# Altium schematic symbol library Schlib2.SchLib: 36 symbols
Pins are listed as number, name and electrical type; pins without a type are passive.

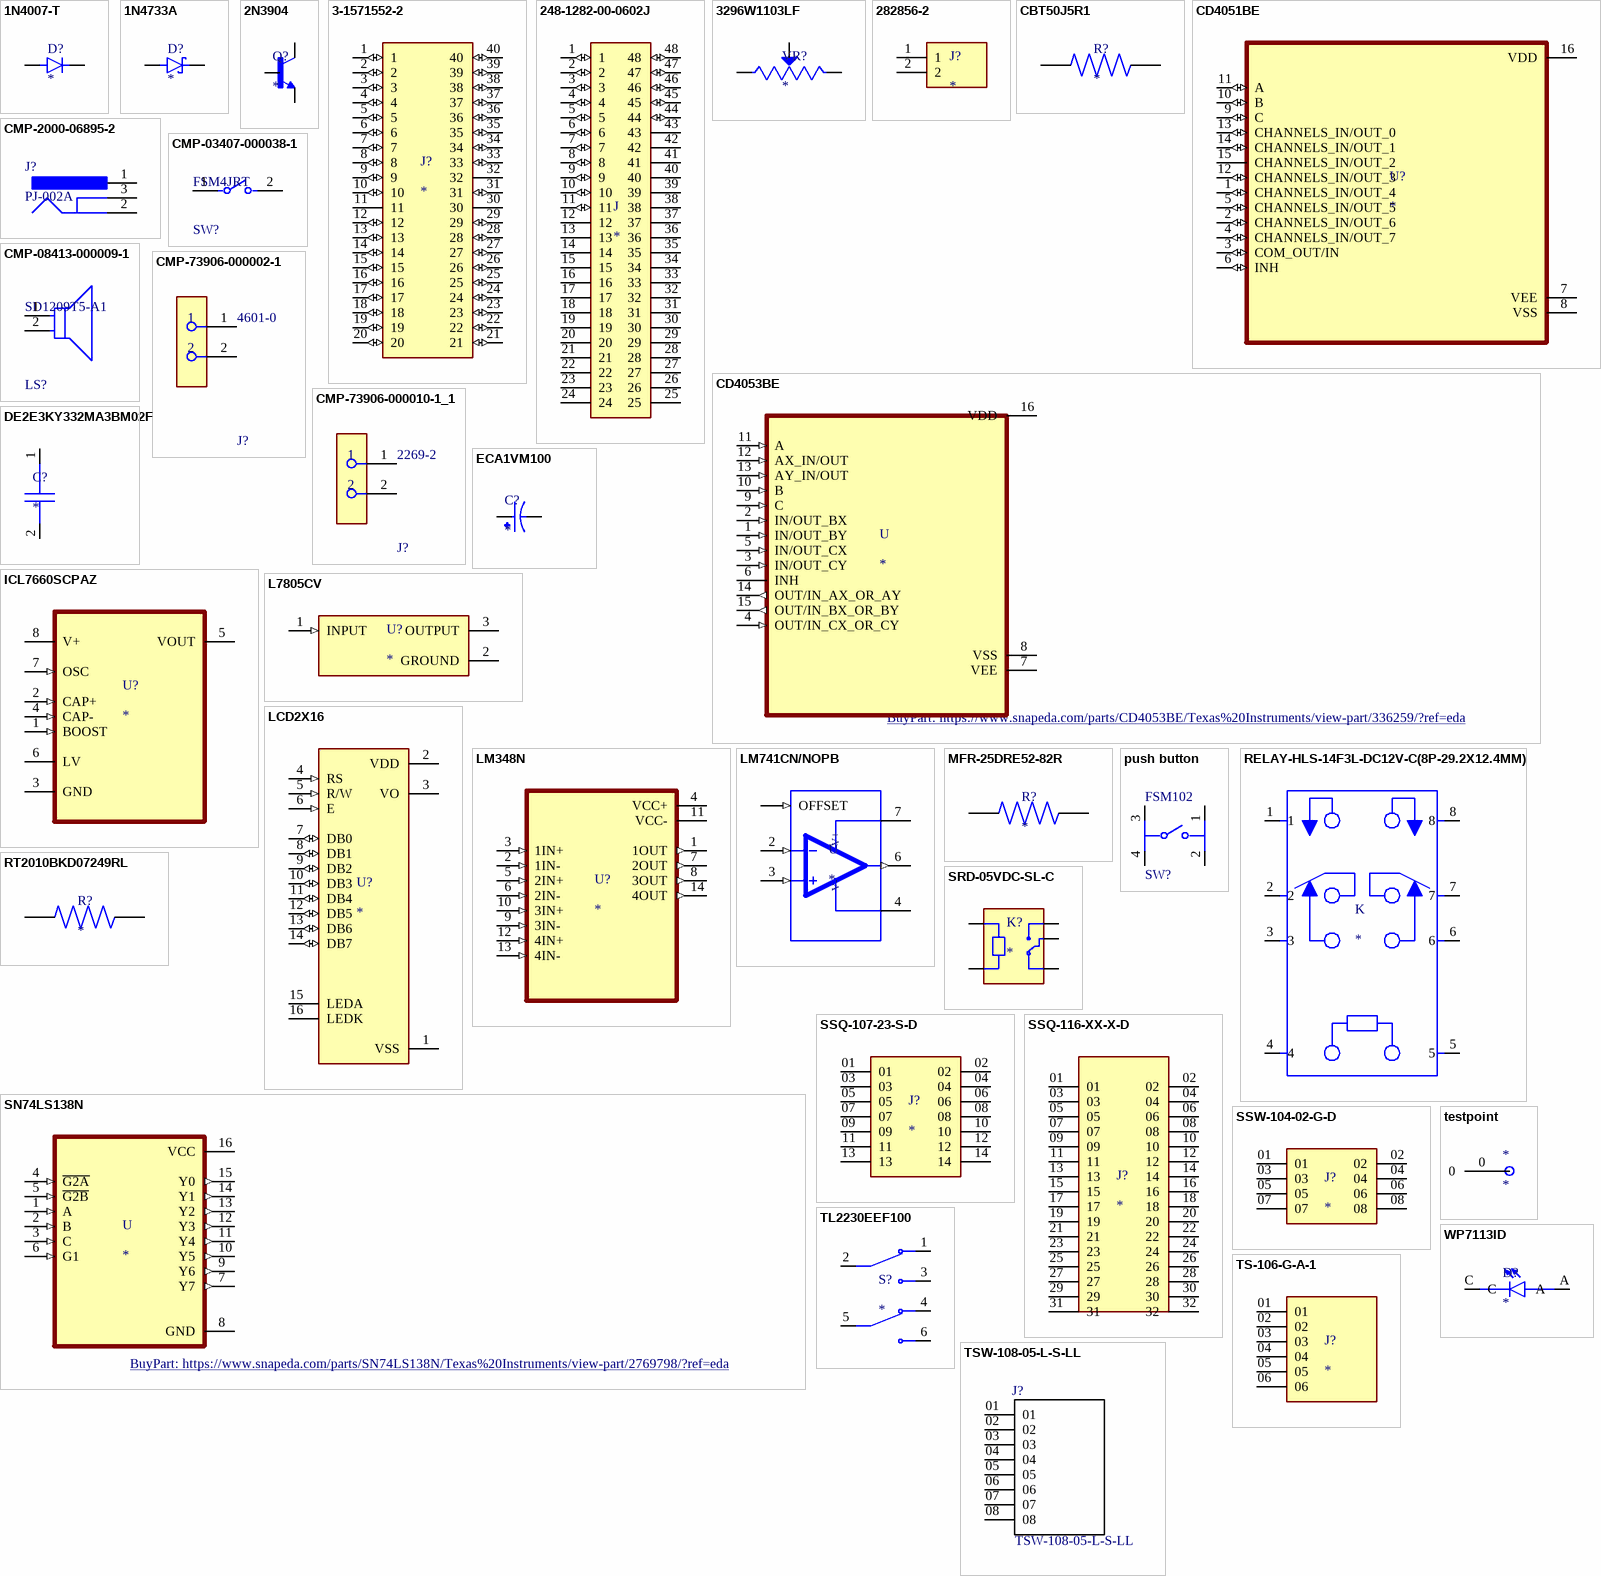
[diagram p0: symbols 1N4007-T to WP7113ID]

## 1N4007-T
designator D?
Diode Standard 1A 1000V 1Vf DO41 | Diodes Inc 1N4007-T; MF: Diodes Incorporated; SnapEDA_Link: https://www.snapeda.com/parts/1N4007-T/Diodes+Inc./view-part/?ref=snap; Package: DO-41 Diodes Inc.; Value: *; MP: 1N4007-T; Check_prices: https://www.snapeda.com/parts/1N4007-T/Diodes+Inc./view-part/?ref=eda
footprint DIOAD780W78L463D236
pins: A, K

## 1N4733A
designator D?
Zener Diode 5.1 V 1 W Â±5% Through Hole DO-41; MF: onsemi; MP: 1N4733A; SnapEDA_Link: https://www.snapeda.com/parts/1N4733A/Onsemi/view-part/?ref=snap; Package: DO-41 ON Semiconductor; Value: *; Check_prices: https://www.snapeda.com/parts/1N4733A/Onsemi/view-part/?ref=eda
footprint DIOAD1036W78L463D272
pins: 1 K, 2 A

## 2N3904
designator Q?
TRANS NPN 40V 200MA TO92-3; MP: 2N3904; MF: Rectron; SnapEDA_Link: https://www.snapeda.com/parts/2N3904/Rectron/view-part/?ref=snap; Package: TO-226-3 Rectron; Check_prices: https://www.snapeda.com/parts/2N3904/Rectron/view-part/?ref=eda; Purchase-URL: https://pricing.snapeda.com/search/part/2N3904/?ref=eda; Price: None; Value: *; Availability: In Stock
footprint TO92127P495H495-3
pins: 1 E, 2 B, 3 C

## 3-1571552-2
designator J?
Row Spacing 2.54 mm Pitch Through Hole Dip Socket; MP: 3-1571552-2; Package: None; Price: None; Value: *; Availability: Unavailable
footprint TE_3-1571552-2
pins: 1 (io), 2 (io), 3 (io), 4 (io), 5 (io), 6 (io), 7 (io), 8 (io), 9 (io), 10 (io), 11 (power), 12 (io), 13 (io), 14 (io), 15 (io), 16 (io), 17 (io), 18 (io), 19 (io), 20 (io), 21 (io), 22 (io), 23 (io), 24 (io), 25 (io), 26 (io), 27 (io), 28 (io), 29 (io), 30 (power), 31 (io), 32 (power), 33 (io), 34 (io), 35 (io), 36 (io), 37 (io), 38 (io), 39 (io), 40 (io)

## 248-1282-00-0602J
designator J
48 (2 x 24) Pos DIP, ZIF (ZIP), 0.6 (15.24mm) Row Spacing Socket Gold Connector; MP: 248-1282-00-0602J; MF: 3M; Package: None; Value: *; SnapEDA_Link: https://www.snapeda.com/parts/248-1282-00-0602J/3M%20(TC)/view-part/323818/?ref=snap; DigiKey-Purchase-URL: https://snapeda.com/shop?store=DigiKey&id=323818; Digi-Key_Part_Number: 3M5004-ND
footprint 3M_248-1282-00-0602J
pins: 1 (io), 2 (io), 3 (io), 4 (io), 5 (io), 6 (io), 7 (io), 8 (io), 9 (io), 10 (io), 11 (io), 12, 13, 14, 15, 16, 17, 18, 19, 20, 21, 22, 23, 24, 25, 26, 27, 28, 29, 30, 31, 32, 33, 34, 35, 36, 37, 38, 39, 40, 41, 42, 43, 44 (io), 45 (io), 46 (io), 47 (io), 48 (io)

## 3296W1103LF
designator VR?
Trimmer, Potentiometer 10kohm 25turn Thd; MP: 3296W1103LF; MF: Bourns; Package: None; Check_prices: https://www.snapeda.com/parts/3296W1103LF/Bourns/view-part/2487625/?ref=eda; Availability: Unavailable; Price: None; Value: *; SnapEDA_Link: https://www.snapeda.com/parts/3296W1103LF/Bourns/view-part/2487625/?ref=snap
footprint TRIM_3296W1103LF
pins: 1 CCW, 2 WIPER, 3 CW

## 282856-2
designator J?
TERMI-BLOK PCB MOUNT 2P; MP: 282856-2; MF: TE Connectivity; Purchase-URL: https://pricing.snapeda.com/search/part/282856-2/?ref=eda; Package: None; EU_RoHS_Compliance: Compliant with Exemptions; Price: None; Availability: In Stock; Value: *; Check_prices: https://www.snapeda.com/parts/282856-2/TE+Connectivity+AMP+Connectors/view-part/?ref=eda; SnapEDA_Link: https://www.snapeda.com/parts/282856-2/TE+Connectivity+AMP+Connectors/view-part/?ref=snap
footprint TE_282856-2
pins: 1 (power), 2 (power)

## CBT50J5R1
designator R?
5.1 Ohms Â±5% 0.5W, 1/2W Through Hole Resistor Axial Pulse Withstanding Carbon Composition; MP: CBT50J5R1; MF: TE Connectivity / AMP; Price: None; Availability: In Stock; Package: Axial TE Connectivity / AMP; Value: *; SnapEDA_Link: https://www.snapeda.com/parts/CBT50J5R1/TE+Connectivity+%252F+AMP/view-part/?ref=snap; Purchase-URL: https://pricing.snapeda.com/search/part/CBT50J5R1/?ref=eda; Check_prices: https://www.snapeda.com/parts/CBT50J5R1/TE+Connectivity+%252F+AMP/view-part/?ref=eda
footprint RESAD1520W70L1030D380
pins: 1, 2

## CD4051BE
designator U?
20-V, 8:1, 1-channel analog multiplexer with logic-level conversion; MP: CD4051BE; MF: Texas Instruments; Price: None; Package: PDIP-16 Texas Instruments; Availability: In Stock; SnapEDA_Link: https://www.snapeda.com/parts/CD4051BE/Texas+Instruments/view-part/?ref=snap; Value: *; Check_prices: https://www.snapeda.com/parts/CD4051BE/Texas+Instruments/view-part/?ref=eda; Purchase-URL: https://pricing.snapeda.com/search/part/CD4051BE/?ref=eda
footprint DIP794W45P254L1969H508Q16
pins: 1 CHANNELS_IN/OUT_4 (io), 2 CHANNELS_IN/OUT_6 (io), 3 COM_OUT/IN (io), 4 CHANNELS_IN/OUT_7 (io), 5 CHANNELS_IN/OUT_5 (io), 6 INH (io), 7 VEE (power), 8 VSS (power), 9 C (io), 10 B (io), 11 A (io), 12 CHANNELS_IN/OUT_3 (io), 13 CHANNELS_IN/OUT_0 (io), 14 CHANNELS_IN/OUT_1 (io), 15 CHANNELS_IN/OUT_2, 16 VDD (power)

## CD4053BE
designator U
20-V, 2:1 (SPDT), 3-channel analog multiplexer with logic-level conversion 16-PDIP -55 to 125; MP: CD4053BE; MF: Texas Instruments; DigiKey-Purchase-URL: https://snapeda.com/shop?store=DigiKey&id=336259; SnapEDA_Link: https://www.snapeda.com/parts/CD4053BE/Texas%20Instruments/view-part/336259/?ref=snap; Availability: Good; Arrow_Electronics-Purchase-URL: https://snapeda.com/shop?store=Arrow+Electronics&id=336259; Mouser-Purchase-URL: https://snapeda.com/shop?store=Mouser&id=336259; Package: PDIP-16 Texas Instruments; Texas_Instruments-Purchase-URL: https://snapeda.com/shop?store=Texas+Instruments&id=336259; Value: *; Price: None; BuyPart: https://www.snapeda.com/parts/CD4053BE/Texas%20Instruments/view-part/336259/?ref=eda
footprint DIP794W45P254L1969H508Q16
pins: 1 IN/OUT_BY (in), 2 IN/OUT_BX (in), 3 IN/OUT_CY (in), 4 OUT/IN_CX_OR_CY (in), 5 IN/OUT_CX (in), 6 INH (power), 7 VEE (power), 8 VSS (power), 9 C (in), 10 B (in), 11 A (in), 12 AX_IN/OUT (in), 13 AY_IN/OUT (in), 14 OUT/IN_AX_OR_AY (out), 15 OUT/IN_BX_OR_BY (out), 16 VDD (power)

## CMP-2000-06895-2
designator J?, comment PJ-002A
Through Hole Right Angle DC Power Jack, 2.5 A, 2 mm Center Pin, 3 Position, -25 to 85 degC, RoHS, Bulk; Manufacturer: CUIInc.; Brand: CUI; Inside Contact Diameter: 2mm; Voltage Rating: 24V; Outside Contact Diameter: 6.5mm; Current Rating: 2.5A; Insulation Resistance: 50MOhms; Contact Gender: Male; Connector Type: DCPowerJack; Datasheet Version: Rev. 1.03, 04/2016; Housing Material: PolybutyleneTerephthalate(PBT); Operating Temperature Range: -25Cto+85C; Termination Style: ThroughHole; Product Category: DCPowerConnectors; Mounting Technology: ThroughHole; Mounting Style: ThroughHole; Factory Pack Quantity: 500; Contact Plating: Nickel; Package Reference: PJ-002A; Mounting Angle: Right; Package Description: 3-Pin Through Hole Device, Body 14.4 x 9 mm, Height 11 mm; Flammability Rating: UL94V-0; Manufacturer URL: http://www.cui.com/; Product: Jacks; Contact Material: Copper; Datasheet URL: http://www.cui.com/product/resource/pj-002a.pdf; RoHS: True
footprint CUI-PJ-002A_V (THD, 3-Leads, Body 14.4x9mm, Height 11mm)
pins: 1, 2, 3

## CMP-03407-000038-1
designator SW?, comment FSM4JRT
SWITCH TACTILE SPST-NO 0.05A 24V; Current Rating: 50mA; Actuator Diameter: 3.5mm; Max Voltage Rating (DC): 12V; Actuator Length: 0.055inch; Switch Travel: 0.25mm; Actuator Type: Standard; Contact Resistance: 100mR; Illumination Type: Non-Illuminated; Electrical Life: 100000Cycles; Throw Configuration: SPST; Switch Function: Off-Mom; Actuator Material: Resin; Operating Force: 1.57N; Series: FSMJRT; Min Operating Temperature: -35°C; Max Current Rating: 50mA; Termination: PC Pins; Type: Switch; Radiation Hardening: No; Max Operating Temperature: 105°C; Voltage Rating (DC): 12V; Contact Material: Copper Alloy; Contact Current Rating: 50mA; RoHS Compliant: Yes; Mechanical Life: 100000Cycles; Mount: Through Hole; Package Quantity: 10000; Case/Package: Radial; Packaging: Tape and Reel; Length: 6.19mm; Contact Plating: Silver; Depth: 6.19mm; Orientation: Straight
footprint FP-FSM4JRT-MFG
pins: 1, 2

## CMP-08413-000009-1
designator LS?, comment SD1209T5-A1
AUDIO MAGNETIC XDCR 3-6V TH; Max Supply Current: 60mA; Number of Terminals/Pins: 2; Frequency: 2.048kHz; Washable: No; Operating Supply Voltage: 5V; Self Resonant Frequency: 2.05kHz; Min Operating Temperature: -40°C; Operating Supply Current: 60mA; Diameter: 12mm; Package Quantity: 100; Max Operating Temperature: 85°C; Sensing Method: Magnetic; Series: SD; Current Rating: 60mA; Lead Free: Lead Free; Height: 9mm; Packaging: Tray; Termination: PC Pins; Number of Pins: 2; Voltage Rating (DC): 5V; Mount: Through Hole
footprint FP-SD1209-MFG
pins: 1 C, 2 A

## CMP-73906-000002-1
designator J?, comment 4601-0
CONN TRPL BANANA JACK TURRET; Manufacturer: Pomona Electronics; Conn Orientation: NA; Voltage Rating: 30V; Number Of Contacts: 3; Pitch: 19.05mm; Is Female: yes; Current Rating: 15A; Temperature: to +115°C; ComponentLink2URL: https://www.pomonaelectronics.com/sites/default/files/d4601_1_01.pdf; Temperature Range High: +115°C; Device Class L1: Connectors; Category: Conn; ComponentLink2Description: Datasheet; Device Class L2: unset; RoHS: TRUE; Lead Free: Yes; Automotive: No; Octopart: https://octopart.com/4601-0-pomona+electronics-39650713; Package: 0; Digikey Description: CONN TRPL BANANA JACK TURRET; Contact Material: Nickel; Mouser Description: Test Plugs & Test Jacks TRIPLE BANANA JAC; Device Class L3: unset; Manufacturer Part Number: 4601-0
footprint FP-2269-2-MFG
pins: 1, 2

## CMP-73906-000010-1_1
designator J?, comment 2269-2
CONN DBL BANANA JACK TURRET; Voltage Rating (DC): 70V; Max Current Rating: 15A; Number of Contacts: 2; Voltage Rating: 2.5kV; Body Material: PC; Gender: Female; Insulation: Mating End Insulated; Housing Color: Red; Insulation Material: Polycarbonate; Contact Material: Brass; Termination: Solder; Height: 0.375inch; Orientation: Straight; Lead Free: Lead Free; Length: 24inch; Depth: 16mm; Current Rating: 15A; Width: 4inch; Contact Plating: Tin; Weight: 0.033lb; RoHS Compliant: Yes; REACH SVHC: No SVHC; Package Quantity: 5; Number of Ports: 2; Color: Red; Housing Material: Polycarbonate; Packaging: Bulk; Mount: Panel
footprint FP-2269-2-MFG
pins: 1, 2

## DE2E3KY332MA3BM02F
designator C?
Cap Ceramic 0.0033uF 250VAC E 20% (9 X 5mm) Radial 7.5mm 125Â°C Bulk; MP: DE2E3KY332MA3BM02F; Package: None; Price: None; Value: *; Availability: Unavailable
footprint CAPRR750W60L900T500H900B
pins: 1, 2

## ECA1VM100
designator C?
10F 35V Aluminum Electrolytic Capacitors Radial, Can 2000 Hrs @ 85C; MP: ECA1VM100; MF: Panasonic; Package: RADIAL-2 Panasonic; SnapEDA_Link: https://www.snapeda.com/parts/ECA1VM100/Panasonic/view-part/5791233/?ref=snap; Availability: In Stock; Price: None; Value: *; Check_prices: https://www.snapeda.com/parts/ECA1VM100/Panasonic/view-part/5791233/?ref=eda
footprint CAPPRD200W50D500H1100
pins: N, P

## ICL7660SCPAZ
designator U?
Charge Pump Switching Regulator IC Positive or Negative Fixed -Vin, 2Vin 1 Output 45mA 8-DIP (0.300, 7.62mm); MP: ICL7660SCPAZ; MF: Renesas Electronics America Inc; Check_prices: https://www.snapeda.com/parts/ICL7660SCPAZ/Renesas/view-part/?ref=eda; Value: *; Availability: In Stock; Price: None; Package: DIP-8 Renesas / Intersil; SnapEDA_Link: https://www.snapeda.com/parts/ICL7660SCPAZ/Renesas/view-part/?ref=snap; Purchase-URL: https://pricing.snapeda.com/search/part/ICL7660SCPAZ/?ref=eda
footprint DIP254P762X533-8
pins: 1 BOOST (in), 2 CAP+ (in), 3 GND, 4 CAP- (in), 5 VOUT (power), 6 LV, 7 OSC (in), 8 V+ (power)

## L7805CV
designator U?
Linear Voltage Regulator IC Positive Fixed 1 Output 1.5A TO-220; MP: L7805CV; MF: STMicroelectronics; SnapEDA_Link: https://www.snapeda.com/parts/L7805CV/STMicroelectronics/view-part/?ref=snap; Package: TO-220-3 ON Semiconductor; Check_prices: https://www.snapeda.com/parts/L7805CV/STMicroelectronics/view-part/?ref=eda; Purchase-URL: https://pricing.snapeda.com/search/part/L7805CV/?ref=eda; Price: None; Value: *; Availability: In Stock
footprint TO255P1040X460X1968-3
pins: 1 INPUT (in), 2 GROUND (power), 3 OUTPUT (power)

## LCD2X16
designator U?
Display; Display: LCD 2x16 characters (blue backlight); Price: None; Value: *; MP: LCD2X16; Package: None; Availability: Unavailable
footprint LCD_LCD2X16
pins: 1 VSS (power), 2 VDD (power), 3 VO, 4 RS (in), 5 R/W (in), 6 E (in), 7 DB0 (io), 8 DB1 (io), 9 DB2 (io), 10 DB3 (io), 11 DB4 (io), 12 DB5 (io), 13 DB6 (io), 14 DB7 (io), 15 LEDA, 16 LEDK

## LM348N
designator U?
Quad general propÃ³sito 36V amplificador operacional 14-PDIP 0 a 70; MP: LM348N; MF: Texas Instruments; Price: None; Value: *; Package: PDIP-14 Texas Instruments; Purchase-URL: https://pricing.snapeda.com/search/part/LM348N/?ref=eda; SnapEDA_Link: https://www.snapeda.com/parts/LM348N/Texas%20Instruments/view-part/4791540/?ref=snap; Check_prices: https://www.snapeda.com/parts/LM348N/Texas%20Instruments/view-part/4791540/?ref=eda; Availability: Warning
footprint DIP14
pins: 1 1OUT (out), 2 1IN- (in), 3 1IN+ (in), 4 VCC+ (power), 5 2IN+ (in), 6 2IN- (in), 7 2OUT (out), 8 3OUT (out), 9 3IN- (in), 10 3IN+ (in), 11 VCC- (power), 12 4IN+ (in), 13 4IN- (in), 14 4OUT (out)

## LM741CN/NOPB
designator U
General Purpose Amplifier 1 Circuit 8-PDIP; MF: Texas Instruments; MP: LM741CN/NOPB; Package: DIP-8 Microsemi; Value: *; Price: None; Availability: Unavailable; SnapEDA_Link: https://www.snapeda.com/parts/LM741CN/NOPB/Texas%20Instruments/view-part/74633/?ref=snap
footprint DIP794W45P254L1016H508Q8
pins: 1 OFFSET (in), 2 INV_INPUT (in), 3 NON-INV_INPUT (in), 4 V- (power), 5 OFFSET (in), 6 OUTPUT (out), 7 V+ (power)

## MFR-25DRE52-82R
designator R?
RES 280K OHM 1/4W 1% AXIAL; MP: MFR-25DRE52-82R; Package: None; Price: None; Value: *; Availability: Unavailable
footprint RESAD1520W70L1030D380
pins: 1, 2

## push button
designator SW?, comment FSM102
SWITCH TACTILE SPST-NO 0.05A 24V; Contact Current Rating: 50mA; Switch Travel: 0.3mm; Actuator Material: Polyester; Actuator Length: 8.02mm; Contact Resistance: 100mR; Operating Force: 160gf; Throw Configuration: SPST; Electrical Life: 100000Cycles; Max Voltage Rating (DC): 12V; Switch Function: Off-Mom; Illumination Type: Non-Illuminated; Color: Black; Type: Switch; Termination: PC Pin; Package Quantity: 400; Min Operating Temperature: -40°C; Max Current Rating: 50mA; Lead Free: Lead Free; Series: FSM100 ~ 104; Width: 12.4mm; Mount: Through Hole; ELV: Compliant; Contact Material: Copper Alloy; Voltage Rating (DC): 24V; Length: 12.4mm; Contact Plating: Silver; RoHS Compliant: Yes; Mechanical Life: 100000Cycles; Packaging: Loose Piece; Orientation: Straight; Height: 3.99mm; Current Rating: 50mA; Max Operating Temperature: 85°C; Depth: 12.5mm
footprint FP-FSM102-MFG
pins: 1, 2, 3, 4

## RELAY-HLS-14F3L-DC12V-C(8P-29.2X12.4MM)
designator K
Relay-12V-5A/240VAC;; MP: HLS-14F3L-DC12V-C; MF: Helishun; Availability: Unavailable; SnapEDA_Link: https://www.snapeda.com/parts/HLS-14F3L-DC12V-C/Helishun/view-part/105888/?ref=snap; Value: *; Price: None; Package: None
footprint Relay (HLS-4078-DC5V)
pins: 1 (io), 2 (io), 3 (io), 4 (io), 5 (io), 6 (io), 7 (io), 8 (io)

## RT2010BKD07249RL
designator R?
RES SMD 249 OHM 0.1% 1/2W 2010; MP: RT2010BKD07249RL; Package: None; Price: None; Value: *; Availability: Unavailable
footprint RESC5025X65N
pins: 1, 2

## SN74LS138N
designator U
3-line to 8-line decoder / demultiplexer 16-PDIP 0 to 70; MF: Texas Instruments; MP: SN74LS138N; Value: *; Availability: Unavailable; Price: None; SnapEDA_Link: https://www.snapeda.com/parts/SN74LS138N/Texas%20Instruments/view-part/2769798/?ref=snap; Texas_Instruments-Purchase-URL: https://snapeda.com/shop?store=Texas+Instruments&id=2769798; Package: PDIP-16 Texas Instruments; BuyPart: https://www.snapeda.com/parts/SN74LS138N/Texas%20Instruments/view-part/2769798/?ref=eda
footprint DIP794W45P254L1969H508Q16
pins: 1 A (in), 2 B (in), 3 C (in), 4 ~{G2A} (in), 5 ~{G2B} (in), 6 G1 (in), 7 Y7 (out), 8 GND (power), 9 Y6 (out), 10 Y5 (out), 11 Y4 (out), 12 Y3 (out), 13 Y2 (out), 14 Y1 (out), 15 Y0 (out), 16 VCC (power)

## SRD-05VDC-SL-C
designator K?
5V Trigger Relay Module For Arduino And Raspberry Pi 5V Trigger Relay Module For Arduino And Raspberry Pi; MF: Songle Relay; MP: SRD-05VDC-SL-C; Check_prices: https://www.snapeda.com/parts/SRD-05VDC-SL-C/Songle+Relay/view-part/?ref=eda; Value: *; Availability: Not in stock; Price: None; Package: NON STANDARD-5 Songle Relay; SnapEDA_Link: https://www.snapeda.com/parts/SRD-05VDC-SL-C/Songle+Relay/view-part/?ref=snap
footprint RELAY_SRD-05VDC-SL-C
footprint RELAY_SRD-05VDC-SL-C
pins: A1, A2, COM, NC, NO

## SSQ-107-23-S-D
designator J?
14 Position Receptacle Connector 0.100 (2.54mm) Through Hole Gold; MF: Samtec; MP: SSQ-107-23-S-D; Purchase-URL: https://pricing.snapeda.com/search/part/SSQ-107-23-S-D/?ref=eda; Price: None; Check_prices: https://www.snapeda.com/parts/SSQ-107-23-S-D/Samtec/view-part/?ref=eda; SnapEDA_Link: https://www.snapeda.com/parts/SSQ-107-23-S-D/Samtec/view-part/?ref=snap; Availability: In Stock; Value: *; Package: None
footprint SAMTEC_SSQ-107-23-S-D
pins: 01, 02, 03, 04, 05, 06, 07, 08, 09, 10, 11, 12, 13, 14

## SSQ-116-XX-X-D
designator J?
32 Position Receptacle Connector 0.100 (2.54mm) Through Hole, Right Angle Gold; MP: SSQ-116-02-L-D; MF: Samtec; SnapEDA_Link: https://www.snapeda.com/parts/SSQ-116-02-L-D/Samtec/view-part/3403605/?ref=snap; Package: None; Purchase-URL: https://pricing.snapeda.com/search/part/SSQ-116-02-L-D/?ref=eda; Availability: In Stock; Price: None; Check_prices: https://www.snapeda.com/parts/SSQ-116-02-L-D/Samtec/view-part/3403605/?ref=eda; Value: *
footprint SAMTEC_SSQ-116-XX-X-D
pins: 01, 02, 03, 04, 05, 06, 07, 08, 09, 10, 11, 12, 13, 14, 15, 16, 17, 18, 19, 20, 21, 22, 23, 24, 25, 26, 27, 28, 29, 30, 31, 32

## SSW-104-02-G-D
designator J?
MF: Samtec; MP: SSW-104-02-G-D; Availability: Unavailable; Price: None; Value: *; Package: None
footprint SAMTEC_SSW-104-02-G-D
pins: 01, 02, 03, 04, 05, 06, 07, 08

## testpoint
designator *
pins: 0

## TL2230EEF100
designator S?
Pushbutton Switch DPDT Standard Through Hole; MP: TL2230EEF100; MF: E-Switch; Price: None; SnapEDA_Link: https://www.snapeda.com/parts/TL2230EEF100/E-Switch/view-part/?ref=snap; Purchase-URL: https://pricing.snapeda.com/search/part/TL2230EEF100/?ref=eda; Value: *; Availability: In Stock; Package: None; Check_prices: https://www.snapeda.com/parts/TL2230EEF100/E-Switch/view-part/?ref=eda
footprint SW_TL2230EEF100
pins: 1 NC1, 2 COM1, 3 NO1, 4 NC2, 5 COM2, 6 NO2

## TS-106-G-A-1
designator J?
Conn Unshrouded Header HDR 6 POS 2.54mm Solder ST Thru-Hole Tube; MF: Samtec; MP: TS-106-G-A-1; Value: *; Availability: In Stock; Purchase-URL: https://pricing.snapeda.com/search/part/TS-106-G-A-1/?ref=eda; Price: None; SnapEDA_Link: https://www.snapeda.com/parts/TS-106-G-A-1/Samtec/view-part/?ref=snap; Check_prices: https://www.snapeda.com/parts/TS-106-G-A-1/Samtec/view-part/?ref=eda; Package: None
footprint SAMTEC_TS-106-G-A-1
pins: 01, 02, 03, 04, 05, 06

## TSW-108-05-L-S-LL
designator J?
SnapEDA_Link: https://www.snapeda.com/parts/TSW-108-05-L-S-LL/Samtec/view-part/?ref=snap; Check_prices: https://www.snapeda.com/parts/TSW-108-05-L-S-LL/Samtec/view-part/?ref=eda; Value: *
footprint *SAMTEC_TSW-108-05-L-S-LL_TSW-108-05-L-S-LL(Primary)
pins: 01, 02, 03, 04, 05, 06, 07, 08

## WP7113ID
designator D?
Red 617nm LED Indication - Discrete 2V Radial; MP: WP7113ID; MF: Kingbright; Price: None; Package: Radial Kingbright; Check_prices: https://www.snapeda.com/parts/WP7113ID/Kingbright/view-part/?ref=eda; Purchase-URL: https://pricing.snapeda.com/search/part/WP7113ID/?ref=eda; Availability: In Stock; Value: *; SnapEDA_Link: https://www.snapeda.com/parts/WP7113ID/Kingbright/view-part/?ref=snap
footprint LED_WP7113ID
pins: A, C